# Altium schematic symbol library NODE_V2.SCHLIB: 39 symbols
Pins are listed as number, name and electrical type; pins without a type are passive.

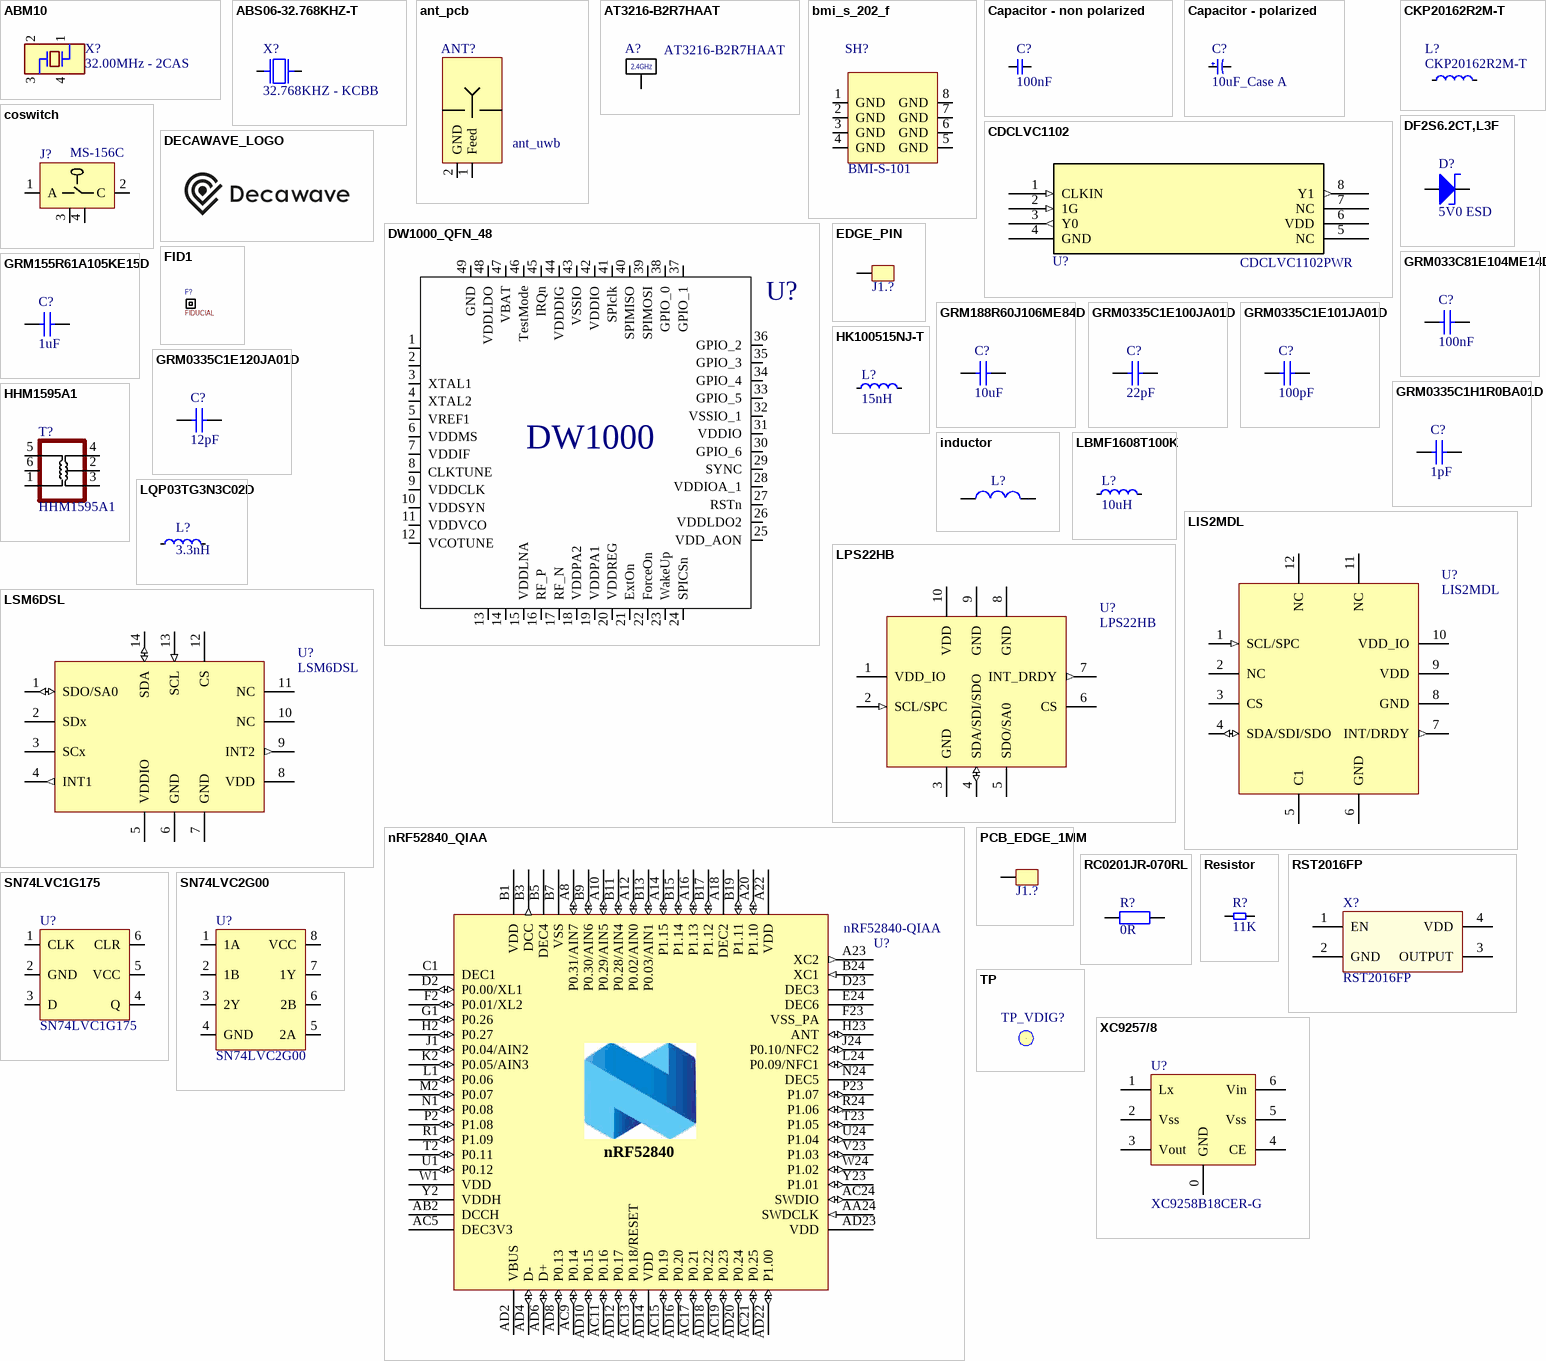
[diagram p0: symbols ABM10 to XC9257/8]

## ABM10
designator X?, comment 32.00MHz - 2CAS
CRYSTAL 32MHZ 8PF SMD; Manufacturer: Commutek; Manufacturer Part Number: 2CAS
footprint ABM10
pins: 1, 2, 3, 4

## ABS06-32.768KHZ-T
designator X?, comment 32.768KHZ - KCBB
CRYSTAL 32.7680KHZ 12.5PF SMD; Manufacturer: Commutek; Manufacturer Part Number: KCBB
footprint XTAL_SMD_3.2X1.5MM
pins: 1, 2

## ant_pcb
designator ANT?, comment ant_uwb
CHIP ANT
footprint ANT
pins: 1 Feed, 2 GND

## AT3216-B2R7HAAT
designator A?
CHIP, 2.45GHZ, 50 OHM, 3.2x1.6 ACX - AAT3216-B2R7HAAT- ANTENNA; Manufacturer Part Number: AMCA31-2R450G-S1F-T; Manufacturer: ACX
footprint AT3216
pins: 1
text: 2.4GHz

## bmi_s_202_f
designator SH?, comment BMI-S-101
RF Shield 13.66x12.1mm; Manufacturer: Laird; Manufacturer Part Number: BMI-S-101
footprint RF_SH_12P7X13P66
pins: 1 GND, 2 GND, 3 GND, 4 GND, 5 GND, 6 GND, 7 GND, 8 GND

## Capacitor - non polarized
designator C?, comment 100nF
100nF_0201_10%; Manufacturer: Murata Electronics North America; Manufacturer Part Number: GRM033C81E104KE14D
footprint C0201-C
pins: 1, 2

## Capacitor - polarized
designator C?, comment 10uF_Case A
10uF_CaseA_10%; Manufacturer Part Number: 293D106X9016A2TE3; Manufacturer: Vishay
footprint TANT3216
pins: 1, 2

## CDCLVC1102
designator U?  Manufacturer Part Number: CDCLVC1102PWR  (hidden comment: CDCLVC1102)
Low Jitter,1:2 LVCMOS Fan-out Clock Buffer; Manufacturer: TI
footprint TSSOP8_0P65_4P5X3P4
pins: 1 CLKIN (in), 2 1G (in), 3 Y0 (out), 4 GND (power), 5 NC (power), 6 VDD (power), 7 NC (power), 8 Y1 (out)

## CKP20162R2M-T
designator L?
FIXED IND 2.2UH 1.2A 110 MOHM; Manufacturer: Taiyo Yuden; Manufacturer Part Number: CKP20162R2M-T
footprint INDC2016X10N
pins: 1, 2

## coswitch
designator J?  Manufacturer Part Number: MS-156C  (hidden comment: coswitch)
COAX JACK STR 50 OHM SMD; Manufacturer: Hirose
footprint RF_SWITCH_2P3X2P3
pins: 1 A, 2 C, 3 GND, 4 GND

## DECAWAVE_LOGO
designator ?  (value not drawn)
footprint DECAWAVE_LOGO_NODE
footprint DECAWAVE_LOGO_ARGO

## DF2S6.2CT,L3F
designator D?, comment 5V0 ESD
TVS DIODE 5VWM; Manufacturer: Toshiba Semiconductor and Storage; Manufacturer Part Number: DF2S6.2CT,L3F
footprint DFN65P100X40-2N
pins: A, K

## DW1000_QFN_48
designator U?, comment DW1000 IC  (value not drawn)
UMB Transceiver; Manufacturer: Decawave; Manufacturer Part Number: DW1000
footprint QFN48_0P4_6P0X6P0_T
pins: 1, 2, 3 XTAL1, 4 XTAL2, 5 VREF1, 6 VDDMS, 7 VDDIF, 8 CLKTUNE, 9 VDDCLK, 10 VDDSYN, 11 VDDVCO, 12 VCOTUNE, 13, 14, 15 VDDLNA, 16 RF_P, 17 RF_N, 18 VDDPA2, 19 VDDPA1, 20 VDDREG, 21 ExtOn, 22 ForceOn, 23 WakeUp, 24 SPICSn, 25 VDD_AON, 26 VDDLDO2, 27 RSTn, 28 VDDIOA_1, 29 SYNC, 30 GPIO_6, 31 VDDIO, 32 VSSIO_1, 33 GPIO_5, 34 GPIO_4, 35 GPIO_3, 36 GPIO_2, 37 GPIO_1, 38 GPIO_0, 39 SPIMOSI, 40 SPIMISO, 41 SPIclk, 42 VDDIO, 43 VSSIO, 44 VDDDIG, 45 IRQn, 46 TestMode, 47 VBAT, 48 VDDLDO, 49 GND

## EDGE_PIN
designator J1.?  (value not drawn)  (no BOM)
PCB Edge pin
footprint PCB_EDGE (PCB EDGE PIN)
footprint PCB_EDGE_1MM (PCB EDGE PIN)
pins: 0

## FID1
designator F?, comment FIDUCIAL
Fiducial 1mm
footprint FID1

## GRM033C81E104ME14D
designator C?, comment 100nF
100nF_0201_10%; Manufacturer: Murata Electronics North America; Manufacturer Part Number: GRM033C81E104KE14D
footprint C0201
pins: 1, 2

## GRM155R61A105KE15D
designator C?, comment 1uF
CAP CER 1UF 10V X5R 0402; Manufacturer: Murata Electronics North America; Manufacturer Part Number: GRM155R61A105KE15D
footprint C0402
pins: 1, 2

## GRM188R60J106ME84D
designator C?, comment 10uF
CAP CER 10UF 6.3V X5R 0603; Manufacturer: Murata Electronics North America; Manufacturer Part Number: GRM188R60J106ME47D
footprint C0603
pins: 1, 2

## GRM0335C1E100JA01D
designator C?, comment 22pF
CAP CER 10PF 25V NP0 0201; Manufacturer: Murata Electronics North America; Manufacturer Part Number: GRM0335C1E220JA01D; Failure Rate: *
footprint C0201
pins: 1, 2

## GRM0335C1E101JA01D
designator C?, comment 100pF
CAP CER 100PF 25V NP0 0201; Manufacturer: Murata Electronics North America; Manufacturer Part Number: GRM0335C1E101JA01D
footprint C0201
pins: 1, 2

## GRM0335C1E120JA01D
designator C?, comment 12pF
12pF_0201_1%; Manufacturer: Murata Electronics North America; Manufacturer Part Number: GRM0335C1E120JA01D
footprint C0201
pins: 1, 2

## GRM0335C1H1R0BA01D
designator C?, comment 1pF
CAP CER 1PF 50V NP0 0201; Manufacturer: Murata Electronics North America; Manufacturer Part Number: GRM0335C1H1R0BA01D
footprint C0201
pins: 1, 2

## HHM1595A1
designator T?
SMT UWB Balun 3-8Ghz; Manufacturer: TDK; Manufacturer Part Number: HHM1595A1
footprint TRANS4_0P65_2P15X1P4
pins: 1, 2, 3, 4, 5, 6

## HK100515NJ-T
designator L?, comment 15nH
FIXED IND 15NH 320MA 460 MOHM; Manufacturer: Taiyo Yuden; Manufacturer Part Number: HK100515NJ-T
footprint INDC1005X05N
pins: 1, 2

## inductor
designator L?, comment BLM15HG601SN1D  (value not drawn)
FERRITE BEAD, 0.7OHM, 300MA, 0402; Manufacturer: Murata Electronics North America; Manufacturer Part Number: BLM15HG601SN1D
footprint L0402
pins: 1, 2

## LBMF1608T100K
designator L?, comment 10uH
FIXED IND 10UH 80MA 360 MOHM SMD; Manufacturer: Taiyo Yuden; Manufacturer Part Number: LBMF1608T100K
footprint L0603
pins: 1, 2

## LIS2MDL
designator U?
Manufacturer: STmicroelectronics; Manufacturer Part Number: LIS2MDLTR
footprint IC_LGA-12 (LIS2MDL)
pins: 1 SCL/SPC (in), 2 NC, 3 CS, 4 SDA/SDI/SDO (io), 5 C1, 6 GND, 7 INT/DRDY (out), 8 GND, 9 VDD (power), 10 VDD_IO (power), 11 NC, 12 NC

## LPS22HB
designator U?
Manufacturer: STmicroelectronics; Manufacturer Part Number: LPS22HBTR
footprint HLGA-10L
pins: 1 VDD_IO (power), 2 SCL/SPC (in), 3 GND, 4 SDA/SDI/SDO (io), 5 SDO/SA0, 6 CS, 7 INT_DRDY (out), 8 GND, 9 GND, 10 VDD (power)

## LQP03TG3N3C02D
designator L?, comment 3.3nH
FIXED IND 3.3NH 400MA 320 MOHM; Manufacturer: Murata Electronics North America; Manufacturer Part Number: LQP03TG3N3C02D
footprint L0201
pins: 1, 2

## LSM6DSL
designator U?
Manufacturer: STmicroelectronics; Manufacturer Part Number: LSM6DSLTR
footprint IC_LGA-14 (LSM6DSL)
pins: 1 SDO/SA0 (io), 2 SDx, 3 SCx, 4 INT1 (out), 5 VDDIO (power), 6 GND, 7 GND, 8 VDD (power), 9 INT2 (out), 10 NC, 11 NC, 12 CS, 13 SCL (in), 14 SDA (io)

## nRF52840_QIAA
designator U?, comment nRF52840-QIAA
Multi-protocol Bluetooth Low Energy, IEEE 802.15.4, ANT and 2.4GHz proprietary system-on-chip; Manufacturer: Nordic Semiconductor ASA; Note: *; Manufacturer Part Number: nRF52840-QIAA
footprint AQFN50P700X700X85_HS-74N
pins: 74 GND (power) hidden to GND, A8 P0.31/AIN7 (io), A10 P0.29/AIN5 (io), A12 P0.02/AIN0 (io), A14 P1.15 (io), A16 P1.13 (io), A18 DEC2 (power), A20 P1.10 (io), A22 VDD (power), A23 XC2 (out), AA24 SWDCLK (in), AB2 DCCH (power), AC5 DEC3V3 (power), AC9 P0.14 (io), AC11 P0.16 (io), AC13 P0.18/RESET (io), AC15 P0.19 (io), AC17 P0.21 (io), AC19 P0.23 (io), AC21 P0.25 (io), AC24 SWDIO (io), AD2 VBUS (power), AD4 D- (io), AD6 D+ (io), AD8 P0.13 (io), AD10 P0.15 (io), AD12 P0.17 (io), AD14 VDD (power), AD16 P0.20 (io), AD18 P0.22 (io), AD20 P0.24 (io), AD22 P1.00 (io), AD23 VDD (power), B1 VDD (power), B3 DCC (out), B5 DEC4 (power), B7 VSS (power), B9 P0.30/AIN6 (io), B11 P0.28/AIN4 (io), B13 P0.03/AIN1 (io), B15 P1.14 (io), B17 P1.12 (io), B19 P1.11 (io), B24 XC1 (in), C1 DEC1 (power), D2 P0.00/XL1 (io), D23 DEC3 (power), E24 DEC6 (power), F2 P0.01/XL2 (io), F23 VSS_PA (power), G1 P0.26 (io), H2 P0.27 (io), H23 ANT (io), J1 P0.04/AIN2 (io), J24 P0.10/NFC2 (io), K2 P0.05/AIN3 (io), L1 P0.06 (io), L24 P0.09/NFC1 (io), M2 P0.07 (io), N1 P0.08 (io), N24 DEC5 (power), P2 P1.08 (io), P23 P1.07 (io), R1 P1.09 (io), R24 P1.06 (io), T2 P0.11 (io), T23 P1.05 (io), U1 P0.12 (io), U24 P1.04 (io), V23 P1.03 (io), W1 VDD (power), W24 P1.02 (io), Y2 VDDH (power), Y23 P1.01 (io)
text: nRF52840

## PCB_EDGE_1MM
designator J1.?, comment EDGE_PIN  (value not drawn)
PCB Edge pin
footprint PCB_EDGE (PCB EDGE PIN)
footprint PCB_EDGE_1MM (PCB EDGE PIN)
pins: 0

## RC0201JR-070RL
designator R?, comment 0R
RES SMD 0.0OHM JUMPER 1/20W 0201; Manufacturer: Yageo; Manufacturer Part Number: RC0201JR-070RL
footprint R0201
pins: 1, 2

## Resistor
designator R?, comment 11K
11K_0201_1%; Manufacturer: Yageo; Manufacturer Part Number: RC0201FR-0711KL
footprint R0201-C
pins: 1, 2

## RST2016FP
designator X?
CRYSTAL TXCO RST2016FP; Manufacturer: Rakon; Manufacturer Part Number: RST2016FP
footprint CAT567 (U?)
pins: 1 EN, 2 GND, 3 OUTPUT, 4 VDD

## SN74LVC1G175
designator U?
Single D-Type Flip Flop with Async Clear; Manufacturer Part Number: SN74LVC1G175DCK; Manufacturer: TI
footprint SC70-6_0P65_2P15X1P4
pins: 1 CLK, 2 GND, 3 D, 4 Q, 5 VCC, 6 CLR

## SN74LVC2G00
designator U?
2 Input NAND; Manufacturer Part Number: SN74LVC2G00DCU; Manufacturer: TI
footprint VSSOP8_0P5_2P1X2P4
pins: 1 1A, 2 1B, 3 2Y, 4 GND, 5 2A, 6 2B, 7 1Y, 8 VCC

## TP
designator TP_VDIG?  (value not drawn)
test point
footprint TP_40S
pins: 1

## XC9257/8
designator U?, comment XC9258B18CER-G
Manufacturer: Torex; Manufacturer Part Number: XC9258B18CER-G
footprint USP-6C
pins: 0 GND, 1 Lx, 2 Vss, 3 Vout, 4 CE, 5 Vss, 6 Vin